# Altium schematic symbol library HW_ADHERENT_SYSCTRL_R1_L2.SCHLIB: 1987 symbols (part 21 of 38)
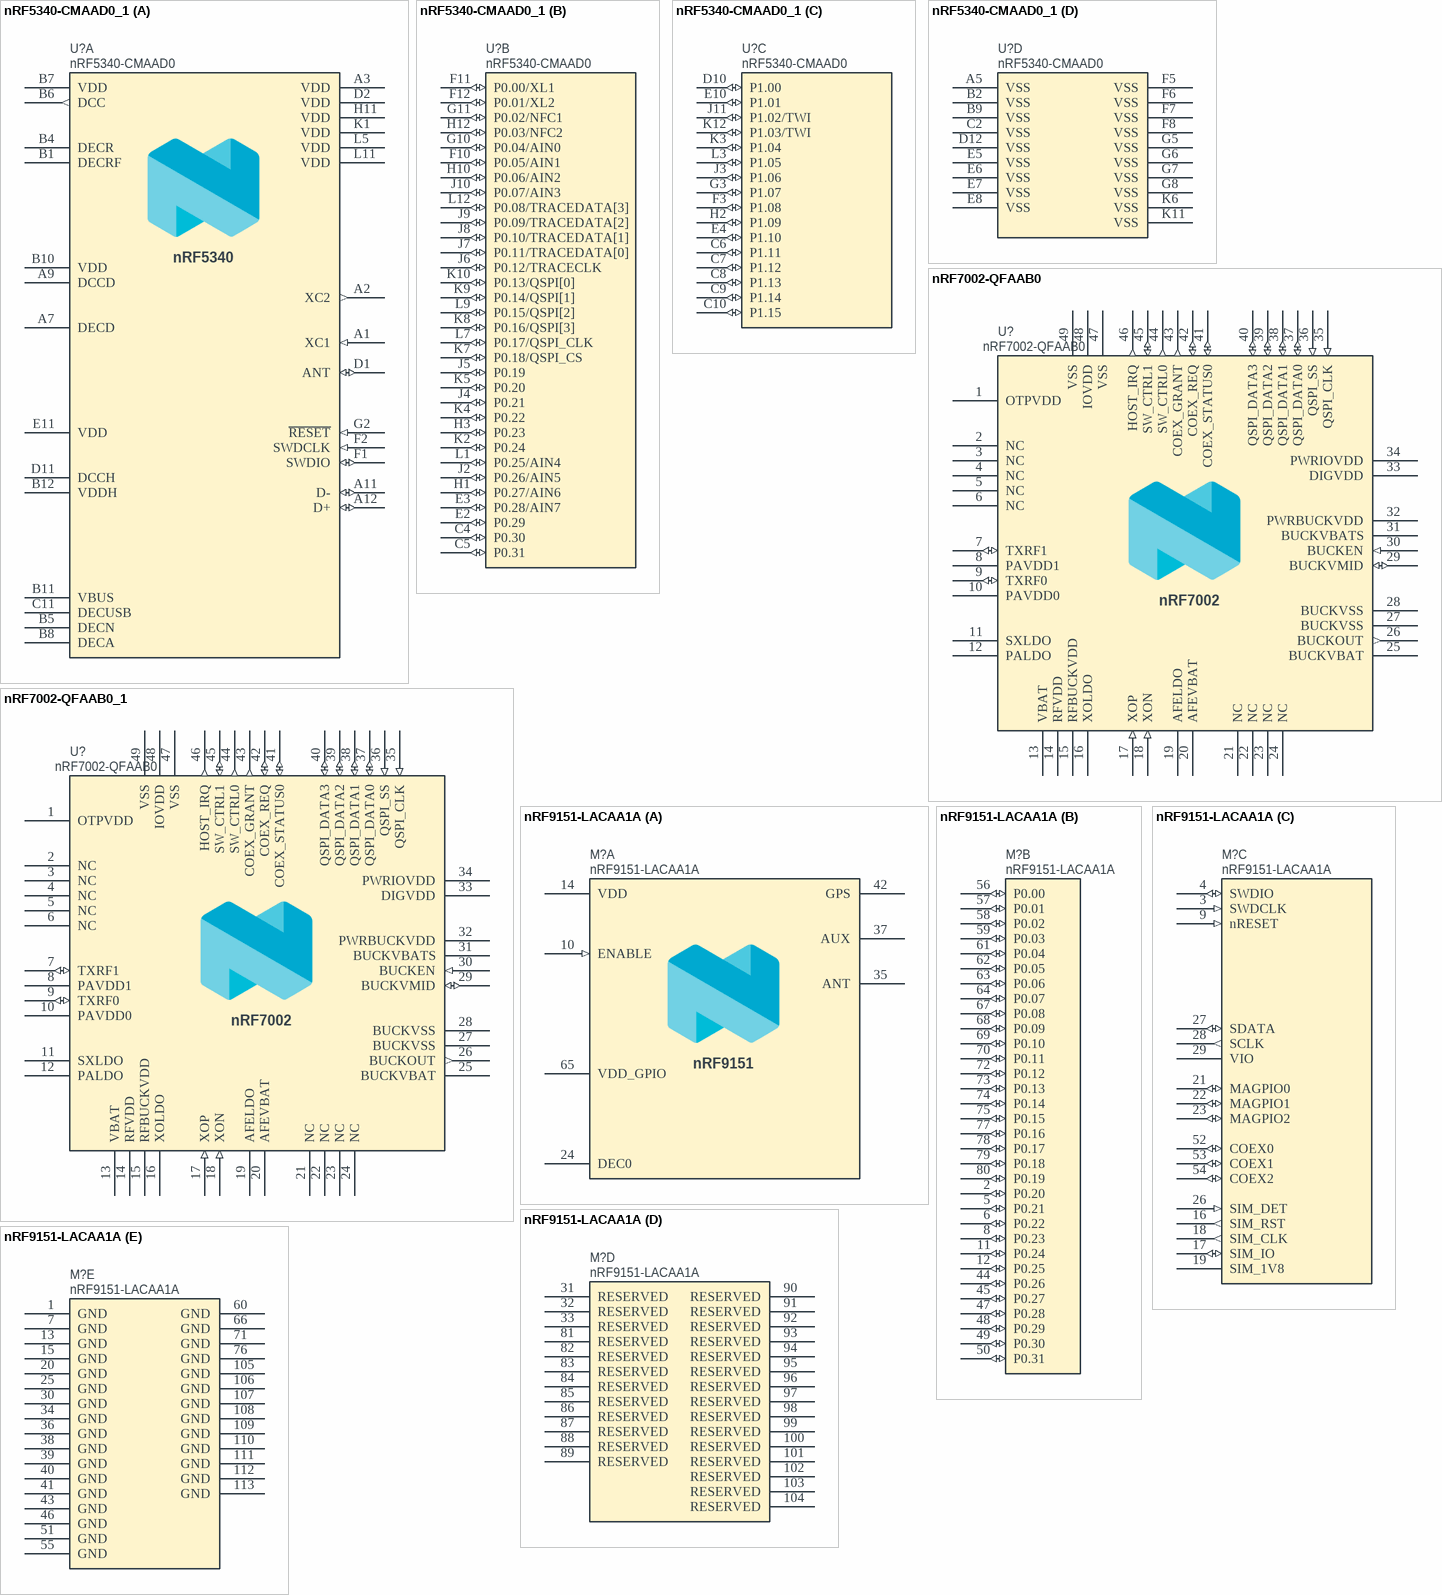
[diagram p82: symbols nRF5340-CMAAD0_1 to nRF9151-LACAA1A]

## nRF7002-QFAAB0
designator U?
Wi-fi Dual Band Companion chip; Manufacturer: Nordic Semiconductor; Part number NEMS: 102000276; Pad Count: 49; Note: N.A.; Component Status: Active; Part Number: nRF7002-QFAAB0; Component Class: Nordic_Devices; Author: hany; Manufacturer Part Number: nRF7002-QFAAB0; ComponentLink1URL: N.A.; ComponentLink1Description: Datasheet; ComponentLink2URL: N.A.; ComponentLink2Description: Supplier link; HelpURL: N.A.; Footprint Doc: QFN-48; LatestRevisionDate: 2023-01-11; Published: 2023-01-11; Value: nRF7002-QFAA; Supplier 1: Nordic Semiconductor; Supplier Part Number 1: nRF7002-QFAAB0; Supplier 2: N.A.; Supplier Part Number 2: N.A.; Artikkelnr Noca: N.A.; Part number IPS: N.A.; Part number Norautron: N.A.; PartId: 102000276
footprint QFN40P600X600X60-48N
pins: 1 OTPVDD (power) "OTP write mode supply,  (2.25-2.75V)", 2 NC, 3 NC, 4 NC, 5 NC, 6 NC, 7 TXRF1 (io) "RF INOUT ,", 8 PAVDD1 (power) "Supply ,  (3.3V)", 9 TXRF0 (io) "RF INOUT ,", 10 PAVDD0 (power) "Supply ,  (3.3V)", 11 SXLDO (power) "Supply ,  (1.2V)", 12 PALDO (power) "Supply ,  (3.3V)", 13 VBAT (power) "Supply ,  (2.5-4.5V)", 14 RFVDD (power) "Supply ,  (1.8V)", 15 RFBUCKVDD (power) "Supply ,  (1.5V)", 16 XOLDO (power) "Supply ,  (1.2V)", 17 XOP (in) "40MHz crystal ,", 18 XON (in) "40MHz crystal ,", 19 AFELDO (power) "Supply ,  (1.8V)", 20 AFEVBAT (power) "Supply ,  (2.5-4.5V)", 21 NC, 22 NC, 23 NC, 24 NC, 25 BUCKVBAT (power) "Supply ,  (2.5-4.5V)", 26 BUCKOUT (out) "DCDC output", 27 BUCKVSS (power) "DCDC GND", 28 BUCKVSS (power) "DCDC GND", 29 BUCKVMID (io) "Voltage reference decoupling pin ,", 30 BUCKEN (in) "PWR IP enable pin ,", 31 BUCKVBATS (power) "Supply ,  (2.5-4.5V)", 32 PWRBUCKVDD (power) "Supply ,  (1.5V)", 33 DIGVDD (power) "Supply ,  (1.1V)", 34 PWRIOVDD (power) "internal IO supply, may be used for OTP read,  (1.8-3.3 V)", 35 QSPI_CLK (in) "QSPI Clock", 36 QSPI_SS (in) "QSPI  Slave select", 37 QSPI_DATA0 (io) "QSPI data 0/MOSI", 38 QSPI_DATA1 (io) "QSPI data 1/MISO", 39 QSPI_DATA2 (io) "QSPI data 2/NC", 40 QSPI_DATA3 (io) "QSPI data 3/NC", 41 COEX_STATUS0 (io) "Coex interface, DIGMON1 (O) / GPIO1 (O)", 42 COEX_REQ (io) "Coex interface, DIGMON0 (O) / GPIO0 (O)", 43 COEX_GRANT (out) "Coex interface, GPIO2 (O)", 44 SW_CTRL0 (out) "external switch control , GPIO3 (O)", 45 SW_CTRL1 (io) "external switch control , GPIO4 (O) / BT_COEX_STATUS1 (I)", 46 HOST_IRQ (out) "Host processor interrupt request , GPIO5 (O)", 47 VSS "Connect to GND", 48 IOVDD (power) "IO supply ,  (1.8-3.3 V)", 49 VSS (power) "Center Pad"
text: nRF7002

## nRF7002-QFAAB0_1
designator U?, comment nRF7002-QFAAB0
Wi-fi Dual Band Companion chip; Manufacturer: Nordic Semiconductor; Part number NEMS: 102000276; Pad Count: 49; Note: N.A.; Component Status: Active; Part Number: nRF7002-QFAAB0; Component Class: Nordic_Devices; Author: hany; Manufacturer Part Number: nRF7002-QFAAB0; ComponentLink1URL: N.A.; ComponentLink1Description: Datasheet; ComponentLink2URL: N.A.; ComponentLink2Description: Supplier link; HelpURL: N.A.; Footprint Doc: QFN-48; LatestRevisionDate: 2023-01-11; Published: 2023-01-11; Value: nRF7002-QFAA; Supplier 1: Nordic Semiconductor; Supplier Part Number 1: nRF7002-QFAAB0; Supplier 2: N.A.; Supplier Part Number 2: N.A.; Artikkelnr Noca: N.A.; Part number IPS: N.A.; Part number Norautron: N.A.; PartId: 102000276
footprint QFN40P600X600X60-48N
pins: 1 OTPVDD (power) "OTP write mode supply,  (2.25-2.75V)", 2 NC, 3 NC, 4 NC, 5 NC, 6 NC, 7 TXRF1 (io) "RF INOUT ,", 8 PAVDD1 (power) "Supply ,  (3.3V)", 9 TXRF0 (io) "RF INOUT ,", 10 PAVDD0 (power) "Supply ,  (3.3V)", 11 SXLDO (power) "Supply ,  (1.2V)", 12 PALDO (power) "Supply ,  (3.3V)", 13 VBAT (power) "Supply ,  (2.5-4.5V)", 14 RFVDD (power) "Supply ,  (1.8V)", 15 RFBUCKVDD (power) "Supply ,  (1.5V)", 16 XOLDO (power) "Supply ,  (1.2V)", 17 XOP (in) "40MHz crystal ,", 18 XON (in) "40MHz crystal ,", 19 AFELDO (power) "Supply ,  (1.8V)", 20 AFEVBAT (power) "Supply ,  (2.5-4.5V)", 21 NC, 22 NC, 23 NC, 24 NC, 25 BUCKVBAT (power) "Supply ,  (2.5-4.5V)", 26 BUCKOUT (out) "DCDC output", 27 BUCKVSS (power) "DCDC GND", 28 BUCKVSS (power) "DCDC GND", 29 BUCKVMID (io) "Voltage reference decoupling pin ,", 30 BUCKEN (in) "PWR IP enable pin ,", 31 BUCKVBATS (power) "Supply ,  (2.5-4.5V)", 32 PWRBUCKVDD (power) "Supply ,  (1.5V)", 33 DIGVDD (power) "Supply ,  (1.1V)", 34 PWRIOVDD (power) "internal IO supply, may be used for OTP read,  (1.8-3.3 V)", 35 QSPI_CLK (in) "QSPI Clock", 36 QSPI_SS (in) "QSPI  Slave select", 37 QSPI_DATA0 (io) "QSPI data 0/MOSI", 38 QSPI_DATA1 (io) "QSPI data 1/MISO", 39 QSPI_DATA2 (io) "QSPI data 2/NC", 40 QSPI_DATA3 (io) "QSPI data 3/NC", 41 COEX_STATUS0 (io) "Coex interface, DIGMON1 (O) / GPIO1 (O)", 42 COEX_REQ (io) "Coex interface, DIGMON0 (O) / GPIO0 (O)", 43 COEX_GRANT (out) "Coex interface, GPIO2 (O)", 44 SW_CTRL0 (out) "external switch control , GPIO3 (O)", 45 SW_CTRL1 (io) "external switch control , GPIO4 (O) / BT_COEX_STATUS1 (I)", 46 HOST_IRQ (out) "Host processor interrupt request , GPIO5 (O)", 47 VSS "Connect to GND", 48 IOVDD (power) "IO supply ,  (1.8-3.3 V)", 49 VSS (power) "Center Pad"
text: nRF7002

## nRF9151-LACAA1A
designator M?
Low power System-in-Package with integrated LTE-M/NB-IoT modem and GPS; Manufacturer: Nordic Semiconductor; Part number NEMS: 102000407; Component Status: Active; Pad Count: 113; Note: N.A.; Part Number: nRF9151-LACAA1A; PartId: 102000407; Component Class: Nordic_Devices; Author: getr; Manufacturer Part Number: nRF9151-LACAA1A; ComponentLink1URL: N.A.; ComponentLink1Description: Datasheet; ComponentLink2URL: N.A.; ComponentLink2Description: Supplier link; HelpURL: N.A.; LatestRevisionDate: 2025-04-09; Published: 2025-04-09; Footprint Doc: LGA-113; Value: nRF9151-LACAA1A; Supplier 1: Nordic Semiconductor; Supplier Part Number 1: nRF9151-LACAA1A; Supplier 2: N.A.; Supplier Part Number 2: N.A.; Artikkelnr Noca: N.A.; Part number IPS: N.A.; Part number Norautron: N.A.
footprint LGA50P1210X1110X130-113N
part A pins: 10 ENABLE (in), 14 VDD (power), 24 DEC0, 35 ANT, 37 AUX, 42 GPS, 65 VDD_GPIO (power)
part B pins: 2 P0.20 (io), 5 P0.21 (io), 6 P0.22 (io), 8 P0.23 (io), 11 P0.24 (io), 12 P0.25 (io), 44 P0.26 (io), 45 P0.27 (io), 47 P0.28 (io), 48 P0.29 (io), 49 P0.30 (io), 50 P0.31 (io), 56 P0.00 (io), 57 P0.01 (io), 58 P0.02 (io), 59 P0.03 (io), 61 P0.04 (io), 62 P0.05 (io), 63 P0.06 (io), 64 P0.07 (io), 67 P0.08 (io), 68 P0.09 (io), 69 P0.10 (io), 70 P0.11 (io), 72 P0.12 (io), 73 P0.13 (io), 74 P0.14 (io), 75 P0.15 (io), 77 P0.16 (io), 78 P0.17 (io), 79 P0.18 (io), 80 P0.19 (io)
part C pins: 3 SWDCLK (in), 4 SWDIO (io), 9 nRESET (in), 16 SIM_RST (out), 17 SIM_IO (io), 18 SIM_CLK (out), 19 SIM_1V8 (power), 21 MAGPIO0 (io), 22 MAGPIO1 (io), 23 MAGPIO2 (io), 26 SIM_DET (in), 27 SDATA (io), 28 SCLK (out), 29 VIO, 52 COEX0 (io), 53 COEX1 (io), 54 COEX2 (io)
part D pins: 31 RESERVED, 32 RESERVED, 33 RESERVED, 81 RESERVED, 82 RESERVED, 83 RESERVED, 84 RESERVED, 85 RESERVED, 86 RESERVED, 87 RESERVED, 88 RESERVED, 89 RESERVED, 90 RESERVED, 91 RESERVED, 92 RESERVED, 93 RESERVED, 94 RESERVED, 95 RESERVED, 96 RESERVED, 97 RESERVED, 98 RESERVED, 99 RESERVED, 100 RESERVED, 101 RESERVED, 102 RESERVED, 103 RESERVED, 104 RESERVED
part E pins: 1 GND, 7 GND, 13 GND, 15 GND, 20 GND, 25 GND, 30 GND, 34 GND, 36 GND, 38 GND, 39 GND, 40 GND, 41 GND, 43 GND, 46 GND, 51 GND, 55 GND, 60 GND, 66 GND, 71 GND, 76 GND, 105 GND, 106 GND, 107 GND, 108 GND, 109 GND, 110 GND, 111 GND, 112 GND, 113 GND
part A text: nRF9151

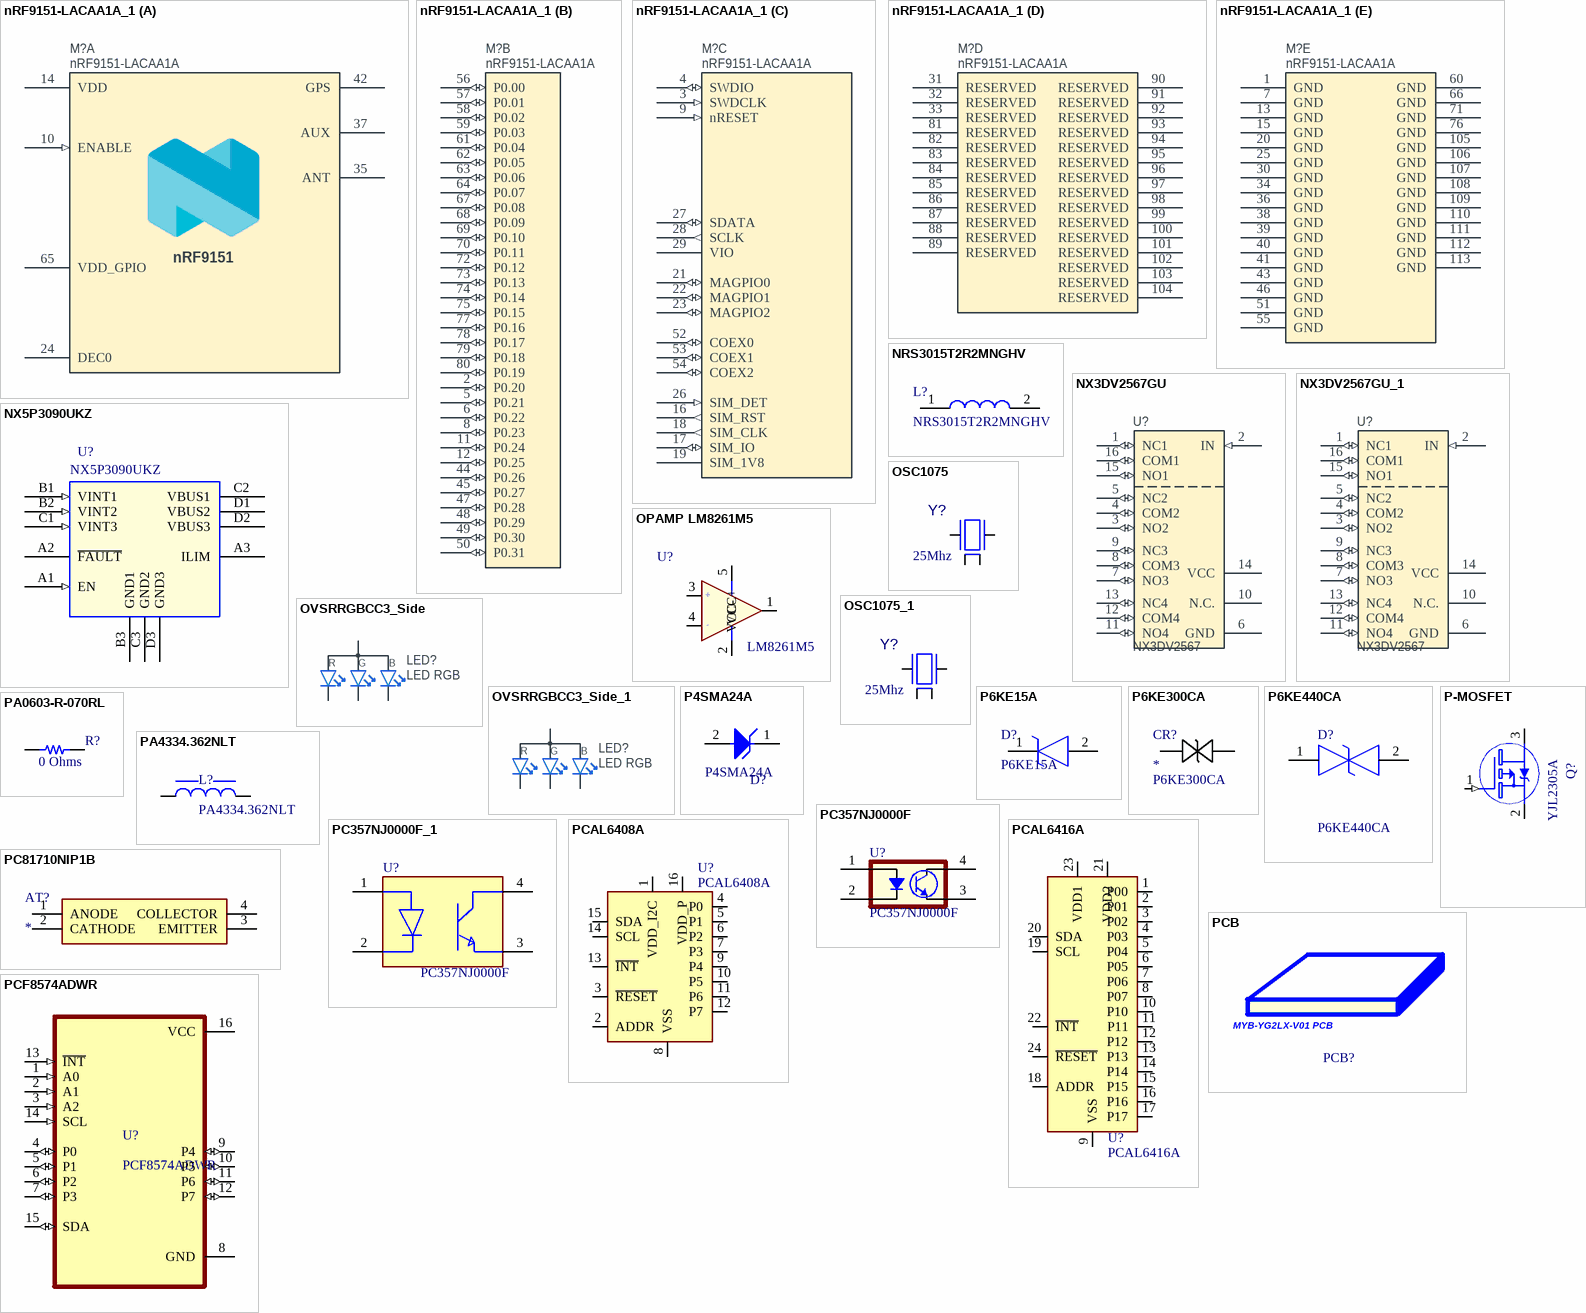
[diagram p39: symbols nRF9151-LACAA1A_1 to PCF8574ADWR]

## nRF9151-LACAA1A_1
designator M?, comment nRF9151-LACAA1A
Low power System-in-Package with integrated LTE-M/NB-IoT modem and GPS; Manufacturer: Nordic Semiconductor; Part number NEMS: 102000407; Component Status: Active; Pad Count: 113; Note: N.A.; Part Number: nRF9151-LACAA1A; PartId: 102000407; Component Class: Nordic_Devices; Author: getr; Manufacturer Part Number: nRF9151-LACAA1A; ComponentLink1URL: N.A.; ComponentLink1Description: Datasheet; ComponentLink2URL: N.A.; ComponentLink2Description: Supplier link; HelpURL: N.A.; LatestRevisionDate: 2025-04-09; Published: 2025-04-09; Footprint Doc: LGA-113; Value: nRF9151-LACAA1A; Supplier 1: Nordic Semiconductor; Supplier Part Number 1: nRF9151-LACAA1A; Supplier 2: N.A.; Supplier Part Number 2: N.A.; Artikkelnr Noca: N.A.; Part number IPS: N.A.; Part number Norautron: N.A.
footprint LGA50P1210X1110X130-113N
part A pins: 10 ENABLE (in), 14 VDD (power), 24 DEC0, 35 ANT, 37 AUX, 42 GPS, 65 VDD_GPIO (power)
part B pins: 2 P0.20 (io), 5 P0.21 (io), 6 P0.22 (io), 8 P0.23 (io), 11 P0.24 (io), 12 P0.25 (io), 44 P0.26 (io), 45 P0.27 (io), 47 P0.28 (io), 48 P0.29 (io), 49 P0.30 (io), 50 P0.31 (io), 56 P0.00 (io), 57 P0.01 (io), 58 P0.02 (io), 59 P0.03 (io), 61 P0.04 (io), 62 P0.05 (io), 63 P0.06 (io), 64 P0.07 (io), 67 P0.08 (io), 68 P0.09 (io), 69 P0.10 (io), 70 P0.11 (io), 72 P0.12 (io), 73 P0.13 (io), 74 P0.14 (io), 75 P0.15 (io), 77 P0.16 (io), 78 P0.17 (io), 79 P0.18 (io), 80 P0.19 (io)
part C pins: 3 SWDCLK (in), 4 SWDIO (io), 9 nRESET (in), 16 SIM_RST (out), 17 SIM_IO (io), 18 SIM_CLK (out), 19 SIM_1V8 (power), 21 MAGPIO0 (io), 22 MAGPIO1 (io), 23 MAGPIO2 (io), 26 SIM_DET (in), 27 SDATA (io), 28 SCLK (out), 29 VIO, 52 COEX0 (io), 53 COEX1 (io), 54 COEX2 (io)
part D pins: 31 RESERVED, 32 RESERVED, 33 RESERVED, 81 RESERVED, 82 RESERVED, 83 RESERVED, 84 RESERVED, 85 RESERVED, 86 RESERVED, 87 RESERVED, 88 RESERVED, 89 RESERVED, 90 RESERVED, 91 RESERVED, 92 RESERVED, 93 RESERVED, 94 RESERVED, 95 RESERVED, 96 RESERVED, 97 RESERVED, 98 RESERVED, 99 RESERVED, 100 RESERVED, 101 RESERVED, 102 RESERVED, 103 RESERVED, 104 RESERVED
part E pins: 1 GND, 7 GND, 13 GND, 15 GND, 20 GND, 25 GND, 30 GND, 34 GND, 36 GND, 38 GND, 39 GND, 40 GND, 41 GND, 43 GND, 46 GND, 51 GND, 55 GND, 60 GND, 66 GND, 71 GND, 76 GND, 105 GND, 106 GND, 107 GND, 108 GND, 109 GND, 110 GND, 111 GND, 112 GND, 113 GND
part A text: nRF9151

## NRS3015T2R2MNGHV
designator L?
2.2 µH Shielded Drum Core, Wirewound Inductor 1.5 A 58mOhm Max Nonstandard; Manufacturer_Name: TAIYO YUDEN; Datasheet Link: https://componentsearchengine.com/Datasheets/1/NRS3015T2R2MNGHV.pdf; Height: 1.5mm; Manufacturer_Part_Number: NRS3015T2R2MNGHV; Mouser Part Number: 963-NRS3015T2R2MNGHV; Mouser Price/Stock: https://www.mouser.co.uk/ProductDetail/TAIYO-YUDEN/NRS3015T2R2MNGHV?qs=DpxmIIQLg%252BP8UFyXVw61Xw%3D%3D; Arrow Part Number: NRS3015T2R2MNGHV; Arrow Price/Stock: https://www.arrow.com/en/products/nrs3015t2r2mnghv/taiyo-yuden?region=nac
footprint NRS3015T2R2MNGHV
pins: 1, 2

## NX3DV2567GU
designator U?, comment NX3DV2567
Low-ohmic four-pole double-throw analog switch; Part Number: NX3DV2567GU; Manufacturer: NXP Semiconductors; Part number IPS: 00000007816; Part number NEMS: 101900290; Note: N.A.; Artikkelnr Noca: 15079317; Pad Count: 16; Component Status: Active; Manufacturer Part Number: NX3DV2567GU; Footprint Doc: XQFN-16; LatestRevisionDate: 2015-02-17; Published: 2015-02-17; Value: NX3DV2567; ComponentLink1URL: N.A.; ComponentLink1Description: Datasheet; ComponentLink2URL: N.A.; ComponentLink2Description: Supplier link; HelpURL: http://www.nxp.com/documents/data_sheet/NX3DV2567.pdf; Supplier 1: Digi-Key; Supplier Part Number 1: 568-5206-1-ND; Supplier 2: Mouser; Supplier Part Number 2: 771-NX3DV2567GU115; PartId: 101900290; Component Class: Misc_ICs; Author: rsk; Part number Norautron: N.A.
footprint XQFN40P180X260X50-16N
pins: 1 NC1 (io), 2 IN (in), 3 NO2 (io), 4 COM2 (io), 5 NC2 (io), 6 GND (power), 7 NO3 (io), 8 COM3 (io), 9 NC3 (io), 10 N.C., 11 NO4 (io), 12 COM4 (io), 13 NC4 (io), 14 VCC (power), 15 NO1 (io), 16 COM1 (io)
3 alternate drawings of the same symbol

## NX3DV2567GU_1
designator U?, comment NX3DV2567
Low-ohmic four-pole double-throw analog switch; Part Number: NX3DV2567GU; Manufacturer: NXP Semiconductors; Part number IPS: 00000007816; Part number NEMS: 101900290; Note: N.A.; Artikkelnr Noca: 15079317; Pad Count: 16; Component Status: Active; Manufacturer Part Number: NX3DV2567GU; Footprint Doc: XQFN-16; LatestRevisionDate: 2015-02-17; Published: 2015-02-17; Value: NX3DV2567; ComponentLink1URL: N.A.; ComponentLink1Description: Datasheet; ComponentLink2URL: N.A.; ComponentLink2Description: Supplier link; HelpURL: http://www.nxp.com/documents/data_sheet/NX3DV2567.pdf; Supplier 1: Digi-Key; Supplier Part Number 1: 568-5206-1-ND; Supplier 2: Mouser; Supplier Part Number 2: 771-NX3DV2567GU115; PartId: 101900290; Component Class: Misc_ICs; Author: rsk; Part number Norautron: N.A.
footprint XQFN40P180X260X50-16N
pins: 1 NC1 (io), 2 IN (in), 3 NO2 (io), 4 COM2 (io), 5 NC2 (io), 6 GND (power), 7 NO3 (io), 8 COM3 (io), 9 NC3 (io), 10 N.C., 11 NO4 (io), 12 COM4 (io), 13 NC4 (io), 14 VCC (power), 15 NO1 (io), 16 COM1 (io)
3 alternate drawings of the same symbol

## NX5P3090UKZ
designator U?
IC,USB PD and type C current-limited power switch,SMD,WLCSP12,X5PT2,NXP; Myir P/N: 20105.00023; CLASS: IC; Part Type: Logic; Manufacturer: NXP; Manufacturer P/N: NX5P3090UKZ; Reserve Value: NX5P3090UKZ; Datasheet: NX5P3090.pdf; PCB Footprint: WLCSP12
footprint WLCSP12
pins: A1 EN (in), A2 ~{FAULT} (oc), A3 ILIM, B1 VINT1 (in), B2 VINT2 (in), B3 GND1 (power), C1 VINT3 (in), C2 VBUS1, C3 GND2 (power), D1 VBUS2, D2 VBUS3, D3 GND3 (power)

## OPAMP LM8261M5
designator U?, comment LM8261M5
Op-amp RR IO; Manufacturer: TI; Position: U?; Value: LM8261M5; Manufacturer Part Number: LM8261M5; Supplier Part Number: LM8261M5CT-ND
footprint SOT23-5
pins: 1 VOUT, 2 VCC-, 3 VIN+, 4 VIN-, 5 VCC+
text: +; -

## OSC1075
designator Y?, comment 25Mhz
CRYSTAL 25.0000MHZ 10PF SMD; Manufacturer: Abracon LLC; Manufacturer Part Number: ABM8G-25.000MHZ-4Y-T3; Value: 25Mhz; Revision: 1; Supplier Part Number: 535-10915-1-ND
footprint SMD 3.2x2.5x1mm (ABM8G-25.000MHZ-4Y-T3)
pins: 1 Osc1, 2 GND (power), 3 Osc2, 4 GND (power)
1 alternate drawing of the same symbol

## OSC1075_1
designator Y?, comment 25Mhz
CRYSTAL 25.0000MHZ 10PF SMD; Manufacturer: Abracon LLC; Manufacturer Part Number: ABM8G-25.000MHZ-4Y-T3; Value: 25Mhz; Revision: 1; Supplier Part Number: 535-10915-1-ND
footprint SMD 3.2x2.5x1mm (ABM8G-25.000MHZ-4Y-T3)
pins: 1 Osc1, 2 GND (power), 3 Osc2, 4 GND (power)
1 alternate drawing of the same symbol

## OVSRRGBCC3_Side
designator LED?, comment LED RGB
Optek, Side mounted RGB 1204 SMD LED; Part Number: OVSRRGBCC3_Side; Manufacturer Part Number: OVSRRGBCC3; Part number NEMS: 101400026; Pad Count: 4; Artikkelnr Noca: N.A.; Component Status: Active; PartId: 101400026; Component Class: Optoelectronics; Author: rsk; Manufacturer: Optek; ComponentLink1URL: http://www.ttelectronics.com/sites/default/files/download-files/Datasheet_OVSRRGBCC3%20Issue%20G.pdf; ComponentLink1Description: Datasheet; ComponentLink2URL: https://www.digikey.no/product-detail/en/tt-electronics-optek-technology/OVSRRGBCC3TM/365-1981-1-ND/5147364; ComponentLink2Description: Supplier link; HelpURL: http://no.farnell.com/optek-technology/ovsrrgbcc3tm/led-dome-rgb-smd/dp/2428398?CMP=GRHB-OCTOPART; Footprint Doc: 1204; LatestRevisionDate: 2018-07-23; Published: 2009-09-11; Value: LED RGB; Note: Side mounted; Supplier 1: Digi-Key; Supplier Part Number 1: 365-1410-1-ND; Supplier 2: Farnell; Supplier Part Number 2: 167-8707; Part number IPS: N.A.; Part number Norautron: N.A.
footprint OVSRRGBCC3_Side
pins: 1 C_RED, 2 C_GREEN, 3 C_BLUE, 4 A
text: R; G; B

## OVSRRGBCC3_Side_1
designator LED?, comment LED RGB
Optek, Side mounted RGB 1204 SMD LED; Part Number: OVSRRGBCC3_Side; Manufacturer Part Number: OVSRRGBCC3; Part number NEMS: 101400026; Pad Count: 4; Artikkelnr Noca: N.A.; Component Status: Active; PartId: 101400026; Component Class: Optoelectronics; Author: rsk; Manufacturer: Optek; ComponentLink1URL: http://www.ttelectronics.com/sites/default/files/download-files/Datasheet_OVSRRGBCC3%20Issue%20G.pdf; ComponentLink1Description: Datasheet; ComponentLink2URL: https://www.digikey.no/product-detail/en/tt-electronics-optek-technology/OVSRRGBCC3TM/365-1981-1-ND/5147364; ComponentLink2Description: Supplier link; HelpURL: http://no.farnell.com/optek-technology/ovsrrgbcc3tm/led-dome-rgb-smd/dp/2428398?CMP=GRHB-OCTOPART; Footprint Doc: 1204; LatestRevisionDate: 2018-07-23; Published: 2009-09-11; Value: LED RGB; Note: Side mounted; Supplier 1: Digi-Key; Supplier Part Number 1: 365-1410-1-ND; Supplier 2: Farnell; Supplier Part Number 2: 167-8707; Part number IPS: N.A.; Part number Norautron: N.A.
footprint OVSRRGBCC3_Side
pins: 1 C_RED, 2 C_GREEN, 3 C_BLUE, 4 A
text: R; G; B

## P4SMA24A
designator D?, comment Manufacturer Part Number: P4SMA24A  (hidden comment: TVS DIODE 20.5VWM 33.2VC DO214AC)
33.2V Clamp 12.3A Ipp Tvs Diode Surface Mount DO-214AC (SMA); Order Code: DIGI: 18-P4SMA24ATR-ND
footprint Diodes_SMA_0
pins: 1 C, 2 A

## P6KE15A
designator D?
21.2V Clamp 28A Ipp Tvs Diode Through Hole DO-204AC (DO-15); Manufacturer_Name: STMicroelectronics; Datasheet Link: http://www.st.com/web/en/resource/technical/document/datasheet/CD00000720.pdf; Manufacturer_Part_Number: P6KE15A; Mouser Part Number: 511-P6KE15A; Mouser Price/Stock: https://www.mouser.co.uk/ProductDetail/STMicroelectronics/P6KE15A?qs=TGPpmpbSrT5hhHGF%252BJ4hqw%3D%3D; Arrow Part Number: P6KE15A; Arrow Price/Stock: https://www.arrow.com/en/products/p6ke15a/stmicroelectronics?region=nac
footprint DIOAD1936W88L640D324
pins: 1 K, 2 A

## P6KE300CA
designator CR?  MPN: P6KE300CA
No Description Available; Mfr_Name: STMicroelectronics
footprint DO-15B_STM
pins: 1, 2

## P6KE440CA
designator D?
ESD Suppressors / TVS Diodes 376Vr 600W 1A 5% Bi-Directional; Manufacturer_Name: LITTELFUSE; Geometry.Height: 3.6mm; Manufacturer_Part_Number: P6KE440CA; Mouser Part Number: 576-P6KE440CA; Mouser Price/Stock: https://www.mouser.co.uk/ProductDetail/Littelfuse/P6KE440CA?qs=zHiv0nsVGmr0h28xTXyx4A%3D%3D; Arrow Part Number: P6KE440CA; Arrow Price/Stock: https://www.arrow.com/en/products/p6ke440ca/littelfuse; Datasheet Link: https://www.littelfuse.com/~/media/electronics/datasheets/tvs_diodes/littelfuse_tvs_diode_p6ke_datasheet.pdf.pdf
footprint P6KE440CA
pins: 1, 2

## P-MOSFET
designator Q?, comment YJL2305A
Mosfet,P-Channel,15V,70OHM,5.6A,SOT23,SMD,YangJie; RP2 Manufacturer P/N: PMV48XPA; RP1 Manufacturer P/N: IRLML6401TRPBF; RP2 Myir P/N: 20703.00014; RP1 Myir P/N: 20703.00005; Myir P/N: 20703.80039; PCB Footprint: SOT-23; Part Type: Mosfet; Manufacturer: YangJie; Manufacturer P/N: YJL2305A; Reserve Value: YJL2305A; Datasheet: YJL2305A.pdf
footprint SOT23T02
footprint SOT-23
pins: 1 G (in), 2 S, 3 D

## PA0603-R-070RL
designator R?, comment 0 Ohms
RES 0 OHM JUMPER 1/2W 0603; Part Number: PA0603-R-070RL; Manufacturer: Yageo; Power (Watts): 0.1W, 1/10W; Temperature Coefficient: ±150ppm/°C; Value: 0 Ohms; ComponentLink1Description: Datasheet; ComponentLink1URL: http://www.yageo.com/NewPortal/_en/search/productDocs.jsp?YageoPartNumber=PA0603-R-070RL; ComponentLink2Description: DigiKey Link; ComponentLink2URL: https://www.digikey.com/en/products/detail/yageo/PA0603-R-070RL/8255972; Composition: Metal Element; Device Package: 0603 (1608 Metric); Features: Automotive AEC-Q200, Current Sense; Height - Seated (Max): 0.024" (0.60mm); LastUpdated: 25.07.2024 09:19:32; Lifecycle Status: Active; Minimum Order: 1; Number of Terminations: 2; Operating Temperature: -55°C ~ 155°C; Package / Case: 0603 (1608 Metric); Packaging: TapeAndReel; PartId: 4862; Part Status: Active; Price: 0.08; Resistance: 0 Ohms; Series: PA; Size / Dimension: 0.063" L x 0.031" W (1.60mm x 0.80mm); Supplier 1: DigiKey; Supplier Part Number 1: YAG5757CT-ND; Supplier Device Package: 0603; Tolerance: Jumper
footprint YAGEO RES 0603_1608
pins: 1, 2

## PA4334.362NLT
designator L?
3.6 µH Shielded Drum Core, Wirewound Inductor 1.36 A 130mOhm Max Nonstandard; MP: PA4334.362NLT
footprint WE-LQS_3015
pins: 1, 2

## PC357NJ0000F
designator U?
Manufacturer: Socle Technology; Supplier 1: Digi-Key; Manufacturer Part Number: PC357NJ0000F; RoHS: No; Stock 1: 22388; Pricing 1: 1=0,83000, 10=0,53800, 100=0,35270, 1000=0,27841 (USD); Supplier Part Number 1: 1855-1023-1-ND
footprint SOIC_1TJ00F_SHP
pins: 1, 2, 3, 4

## PC357NJ0000F_1
designator U?, comment Manufacturer Part Number: PC357NJ0000F  (hidden comment: OPTOISO 3.75KV TRANSISTOR 4BESOP)
Optoisolator Transistor Output 3750Vrms 1 Channel 4-SMD; Manufacturer: SHARP/Socle Technology
footprint Sharp_PC357NJ0000F_0
pins: 1 A, 2 C, 3 E, 4 C

## PC81710NIP1B
designator AT?
Attenuator or Isolator; Manufacturer_Name: Sharp Microelectronics; Manufacturer_Part_Number: PC81710NIP1B; Datasheet Link: https://global.sharp/products/device/lineup/data/pdf/datasheet/PC8171xNSZ1B_e.pdf; Height: 4.2mm; Mouser Part Number: 852-PC81710NIP1B; Mouser Price/Stock: https://www.mouser.co.uk/ProductDetail/Sharp-Microelectronics/PC81710NIP1B?qs=MLItCLRbWswN8lAuXmPENg%3D%3D
footprint SOP254P960X420-4N
pins: 1 ANODE, 2 CATHODE, 3 EMITTER, 4 COLLECTOR

## PCAL6408A
designator U?
GPIO expander 8 IO; Manufacturer: NXP USA Inc.; Manufacturer Part Number: PCAL6408APWJ; Value: PCAL6408A; Supplier Part Number: 568-9921-1-ND
footprint TSSOP-16 (CHECKED BY NAME- 24FEB2020, CREATED BY: JE 400 040A)
pins: 1 VDD_I2C (power), 2 ADDR, 3 ~{RESET}, 4 P0, 5 P1, 6 P2, 7 P3, 8 VSS (power), 9 P4, 10 P5, 11 P6, 12 P7, 13 ~{INT}, 14 SCL, 15 SDA, 16 VDD_P (power)

## PCAL6416A
designator U?
GPIO expander 16 IO; Manufacturer: NXP; Manufacturer Part Number: PCAL6416AHF; Position: U?; Value: PCAL6416A; Supplier Part Number: 568-9946-1-ND
footprint HWQFN-24
pins: 1 P00, 2 P01, 3 P02, 4 P03, 5 P04, 6 P05, 7 P06, 8 P07, 9 VSS (power), 10 P10, 11 P11, 12 P12, 13 P13, 14 P14, 15 P15, 16 P16, 17 P17, 18 ADDR, 19 SCL, 20 SDA, 21 VDD2 (power), 22 ~{INT}, 23 VDD1 (power), 24 ~{RESET}

## PCB
designator PCB?, comment MYB-YG2LX-V01 PCB
PCB Footprint: id-board; Page: 31
footprint id-board

## PCF8574ADWR
designator U?
8-bit 2.5- to 5.5-V I2C/SMBus I/O expander with interrupt; MF: Texas Instruments; SnapEDA_Link: https://www.snapeda.com/parts/PCF8574ADWR/Texas+Instruments/view-part/?ref=snap; Package: SOIC-16 Texas Instruments; Value: *; MP: PCF8574ADWR; Check_prices: https://www.snapeda.com/parts/PCF8574ADWR/Texas+Instruments/view-part/?ref=eda
footprint SOIC127P1030X265-16N
pins: 1 A0 (in), 2 A1 (in), 3 A2 (in), 4 P0 (io), 5 P1 (io), 6 P2 (io), 7 P3 (io), 8 GND (power), 9 P4 (io), 10 P5 (io), 11 P6 (io), 12 P7 (io), 13 ~{INT} (in), 14 SCL (in), 15 SDA (io), 16 VCC (power)

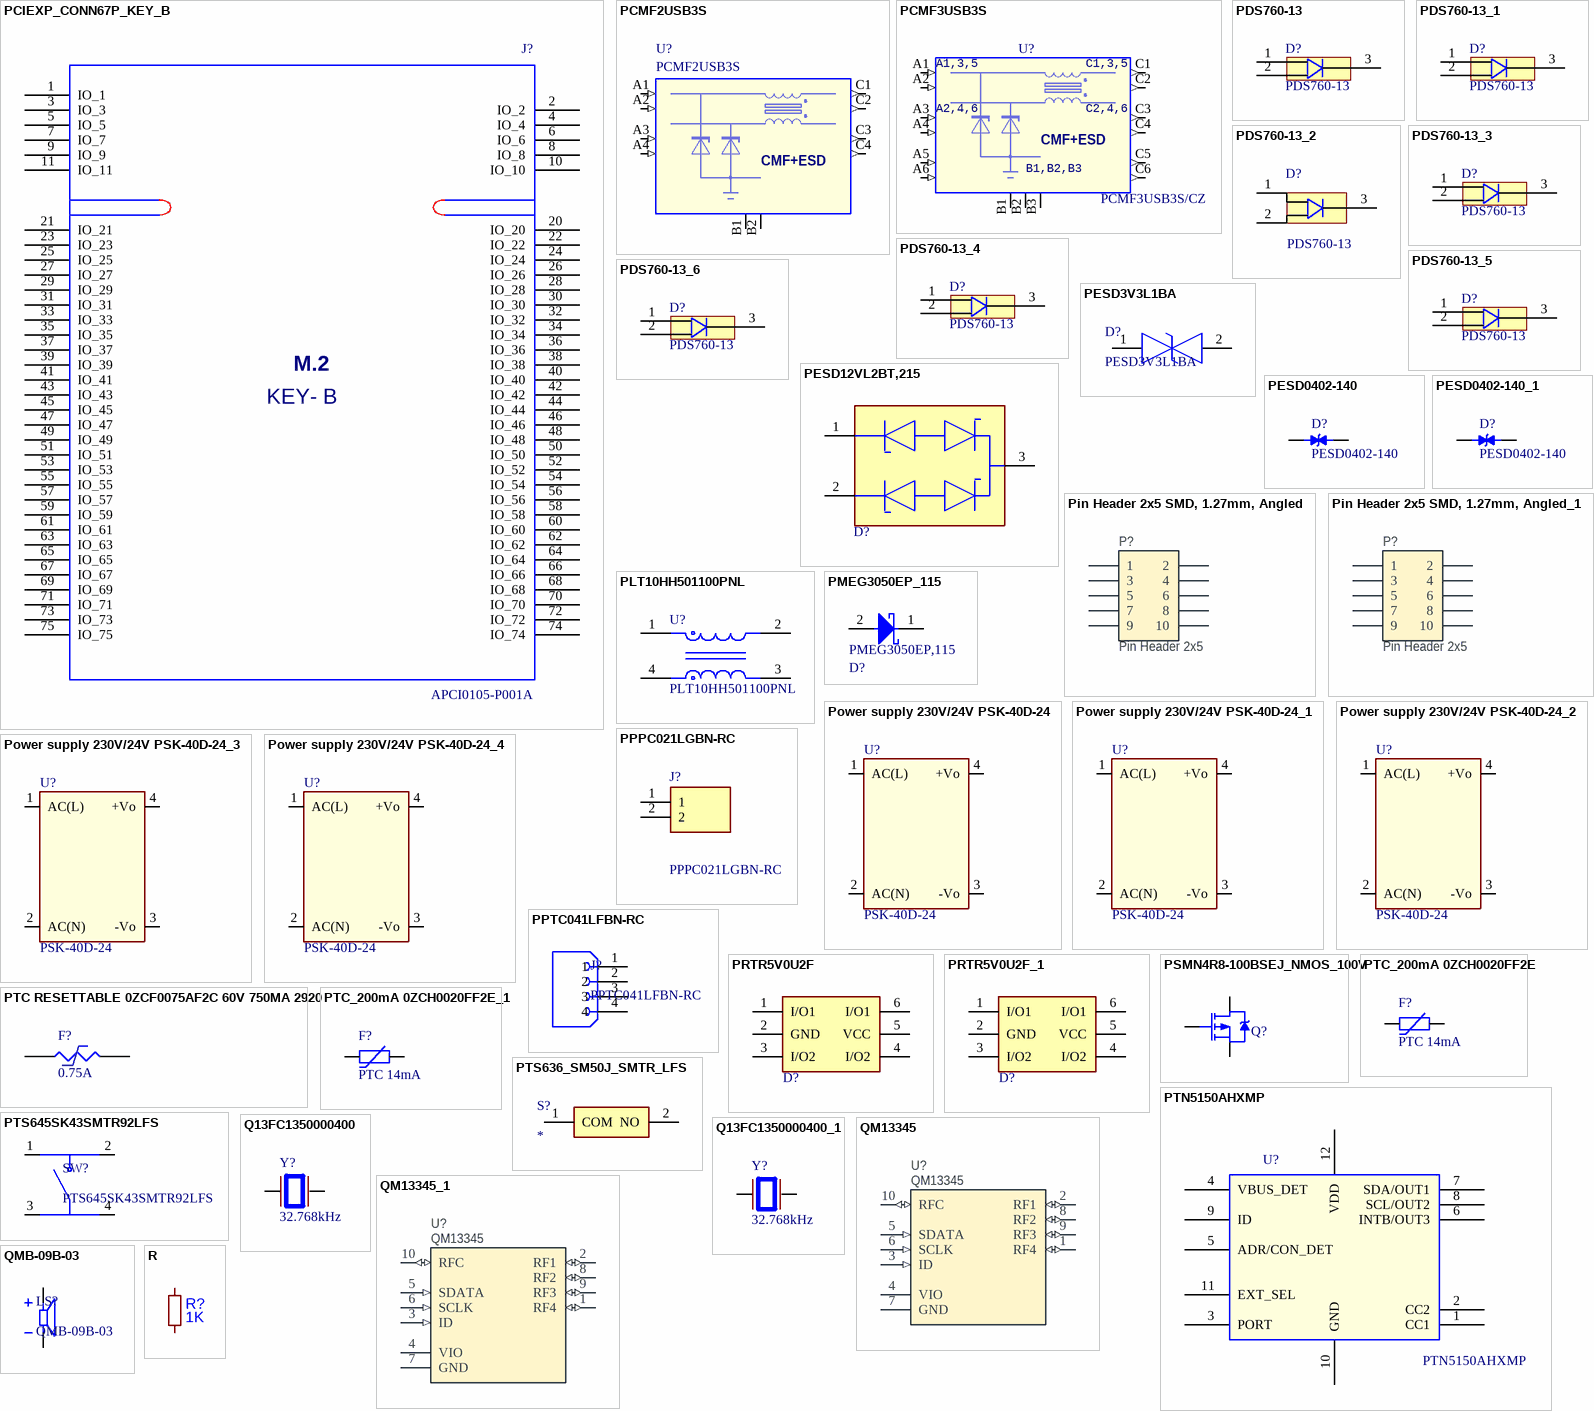
[diagram p40: symbols PCIEXP_CONN67P_KEY_B to R]

## PCIEXP_CONN67P_KEY_B
designator J?, comment APCI0105-P001A
Board Connector,M.2 B-KEY, M.2 Connectors, Connector Height 4.2 mm, Gold, Board-to-Board, 67 Position, 0.5mm,Lotes; CLASS: IO; Myir P/N: 21110.00027; PCB Footprint: CONN-2199230-3; Datasheet: APCI0105-H=4.2(B KEY) .pdf; Reserve Value: APCI0105-P001A; Manufacturer P/N: APCI0105-P001A; Manufacturer: Lotes; Part Type: Board Connector
footprint CONN-2199230-3
pins: 1 IO_1, 2 IO_2, 3 IO_3, 4 IO_4, 5 IO_5, 6 IO_6, 7 IO_7, 8 IO_8, 9 IO_9, 10 IO_10, 11 IO_11, 20 IO_20, 21 IO_21, 22 IO_22, 23 IO_23, 24 IO_24, 25 IO_25, 26 IO_26, 27 IO_27, 28 IO_28, 29 IO_29, 30 IO_30, 31 IO_31, 32 IO_32, 33 IO_33, 34 IO_34, 35 IO_35, 36 IO_36, 37 IO_37, 38 IO_38, 39 IO_39, 40 IO_40, 41 IO_41, 42 IO_42, 43 IO_43, 44 IO_44, 45 IO_45, 46 IO_46, 47 IO_47, 48 IO_48, 49 IO_49, 50 IO_50, 51 IO_51, 52 IO_52, 53 IO_53, 54 IO_54, 55 IO_55, 56 IO_56, 57 IO_57, 58 IO_58, 59 IO_59, 60 IO_60, 61 IO_61, 62 IO_62, 63 IO_63, 64 IO_64, 65 IO_65, 66 IO_66, 67 IO_67, 68 IO_68, 69 IO_69, 70 IO_70, 71 IO_71, 72 IO_72, 73 IO_73, 74 IO_74, 75 IO_75
text: M.2; KEY- B

## PCMF2USB3S
designator U?
IC,Common-mode EMI filter for 2 channels with integrated ESD protection,SMD,WLCSP10,PF2S,NXP; Myir P/N: 20114.00011; CLASS: IC; Datasheet: PCMFxUSB3S.pdf; Reserve Value: PCMF2USB3S; Manufacturer P/N: PCMF2USB3S; Manufacturer: NXP; Part Type: Protection; PCB Footprint: WLCSP10
footprint WLCSP10
pins: A1 CH1_IN+ (in), A2 CH1_IN- (in), A3 CH2_IN+ (in), A4 CH2_IN- (in), B1 GND_CH1 (power), B2 GND_CH2 (power), C1 CH1_OUT+ (out), C2 CH1_OUT- (out), C3 CH2_OUT+ (out), C4 CH2_OUT- (out)
text: CMF+ESD

## PCMF3USB3S
designator U?, comment PCMF3USB3S/CZ
IC,Common-mode EMI filter for 3 channels with integrated ESD protection,SMD,WLCSP15,PF3S,NXP; Myir P/N: 20114.00010; CLASS: IC; Part Type: Protection; Manufacturer: NXP; Manufacturer P/N: PCMF3USB3S/CZ; Reserve Value: PCMF3USB3S/CZ; Datasheet: PCMFxUSB3S.pdf; PCB Footprint: WLCSP15
footprint WLCSP15
pins: A1 CH1_IN+ (in), A2 CH1_IN- (in), A3 CH2_IN+ (in), A4 CH2_IN- (in), A5 CH3_IN+ (in), A6 CH3_IN- (in), B1 GND_CH1 (power), B2 GND_CH2 (power), B3 GND_CH3 (power), C1 CH1_OUT+ (out), C2 CH1_OUT- (out), C3 CH2_OUT+ (out), C4 CH2_OUT- (out), C5 CH3_OUT+ (out), C6 CH3_OUT- (out)
text: A1,3,5; C1,3,5; A2,4,6; C2,4,6; CMF+ESD; B1,B2,B3

## PDS760-13
designator D?, comment Manufacturer Part Number: PDS760-13  (hidden comment: DIODE SCHOTTKY 60V 7A POWERDI5)
Diode 60 V 7A Surface Mount PowerDI™ 5; Order Code: Digi: PDS760DITR-ND; LCSC Manufacturer Part Number: PDS760-13; LCSC Part Number: C96113
footprint POWERDI5
pins: 1 LEFT_PIN, 2 RIGHT_PIN, 3 BOTTOMSIDE_HEAT_SINK

## PDS760-13_1
designator D?, comment Manufacturer Part Number: PDS760-13  (hidden comment: DIODE SCHOTTKY 60V 7A POWERDI5)
Diode 60 V 7A Surface Mount PowerDI™ 5; Order Code: Digi: PDS760DITR-ND; LCSC Manufacturer Part Number: PDS760-13; LCSC Part Number: C96113
footprint POWERDI5
pins: 1 LEFT_PIN, 2 RIGHT_PIN, 3 BOTTOMSIDE_HEAT_SINK

## PDS760-13_2
designator D?, comment Manufacturer Part Number: PDS760-13  (hidden comment: DIODE SCHOTTKY 60V 7A POWERDI5)
Diode 60 V 7A Surface Mount PowerDI™ 5; Order Code: Digi: PDS760DITR-ND; LCSC Manufacturer Part Number: PDS760-13; LCSC Part Number: C96113
footprint POWERDI5
pins: 1 LEFT_PIN, 2 RIGHT_PIN, 3 BOTTOMSIDE_HEAT_SINK

## PDS760-13_3
designator D?, comment Manufacturer Part Number: PDS760-13  (hidden comment: DIODE SCHOTTKY 60V 7A POWERDI5)
Diode 60 V 7A Surface Mount PowerDI™ 5; Order Code: Digi: PDS760DITR-ND; LCSC Manufacturer Part Number: PDS760-13; LCSC Part Number: C96113
footprint POWERDI5
pins: 1 LEFT_PIN, 2 RIGHT_PIN, 3 BOTTOMSIDE_HEAT_SINK

## PDS760-13_4
designator D?, comment Manufacturer Part Number: PDS760-13  (hidden comment: DIODE SCHOTTKY 60V 7A POWERDI5)
Diode 60 V 7A Surface Mount PowerDI™ 5; Order Code: Digi: PDS760DITR-ND; LCSC Manufacturer Part Number: PDS760-13; LCSC Part Number: C96113
footprint POWERDI5
pins: 1 LEFT_PIN, 2 RIGHT_PIN, 3 BOTTOMSIDE_HEAT_SINK

## PDS760-13_5
designator D?, comment Manufacturer Part Number: PDS760-13  (hidden comment: DIODE SCHOTTKY 60V 7A POWERDI5)
Diode 60 V 7A Surface Mount PowerDI™ 5; Order Code: Digi: PDS760DITR-ND; LCSC Manufacturer Part Number: PDS760-13; LCSC Part Number: C96113
footprint POWERDI5
pins: 1 LEFT_PIN, 2 RIGHT_PIN, 3 BOTTOMSIDE_HEAT_SINK

## PDS760-13_6
designator D?, comment Manufacturer Part Number: PDS760-13  (hidden comment: DIODE SCHOTTKY 60V 7A POWERDI5)
Diode 60 V 7A Surface Mount PowerDI™ 5; Order Code: Digi: PDS760DITR-ND; LCSC Manufacturer Part Number: PDS760-13; LCSC Part Number: C96113
footprint POWERDI5
pins: 1 LEFT_PIN, 2 RIGHT_PIN, 3 BOTTOMSIDE_HEAT_SINK

## PESD3V3L1BA
designator D?
TVS Diode (Bi-directional); Manufacturer_Name: Nexperia; Datasheet Link: https://datasheet.datasheetarchive.com/originals/distributors/Datasheets-26/DSA-502681.pdf; Height: 1.1mm; Manufacturer_Part_Number: PESD3V3L1BA; Mouser Part Number: N/A; Mouser Price/Stock: https://www.mouser.co.uk/ProductDetail/Nexperia/PESD3V3L1BA?qs=vHuUswq2%252BswBNSPO0jzUyg%3D%3D
footprint SOD2512X110N
pins: 1, 2

## PESD12VL2BT,215
designator D?  (value not drawn)
37V Clamp 5A (8/20µs) Ipp Tvs Diode Surface Mount TO-236AB; Manufacturer: Nexperia USA Inc.; Manufacturer Part Number: PESD12VL2BT,215; Voltage - Clamping (Max) @ Ipp: 37V; Current - Peak Pulse (10/1000µs): 5A
footprint Nexperia_SOT23_0
pins: 1 cathode 1, 2 cathode 2, 3 double cathode

## PESD0402-140
designator D?
40V Clamp - Ipp Tvs Diode Surface Mount 0402; MF: Littelfuse Inc.; SnapEDA_Link: https://www.snapeda.com/parts/PESD0402-140/Littelfuse/view-part/?ref=snap; Package: 0402 Littelfuse Inc.; Value: *; MP: PESD0402-140; Check_prices: https://www.snapeda.com/parts/PESD0402-140/Littelfuse/view-part/?ref=eda
footprint DIO_PESD0402-140
pins: 1, 2

## PESD0402-140_1
designator D?, comment PESD0402-140
40V Clamp - Ipp Tvs Diode Surface Mount 0402; MF: Littelfuse Inc.; SnapEDA_Link: https://www.snapeda.com/parts/PESD0402-140/Littelfuse/view-part/?ref=snap; Package: 0402 Littelfuse Inc.; Value: *; MP: PESD0402-140; Check_prices: https://www.snapeda.com/parts/PESD0402-140/Littelfuse/view-part/?ref=eda
footprint DIO_PESD0402-140
pins: 1, 2

## Pin Header 2x5 SMD, 1.27mm, Angled
designator P?, comment Pin Header 2x5
Pin Header 2x5, 1.27mm (50mil); Part Number: Pin Header 2x5 SMD, 1.27mm, Angled; Manufacturer: WCON; Manufacturer Part Number: 1325B-1205S0Z080CR04; Part number NEMS: 100500257; Note: (Replaced 1325B-1205S0Z080CR02); Artikkelnr Noca: N.A.; Pad Count: 10; Component Status: Active; System: Connector; LatestRevisionDate: 2024-02-02; Published: 2014-01-22; Value: Pin Header 2x5; Footprint Doc: HDR_2x5-SMD-1.27mm-ANG; Part number IPS: N.A.; ComponentLink1URL: N.A.; ComponentLink1Description: Datasheet; ComponentLink2URL: N.A.; ComponentLink2Description: Supplier link; HelpURL: \\hizz\pro\app9717\Datasheet\connectors\W-CON\1325B-12XXXXZXXXCXXX.pdf; Supplier 1: Cabcon; Supplier Part Number 1: 1325B-1205S0Z080CR04; Supplier 2: N.A.; Supplier Part Number 2: N.A.; Author: rsk; Component Class: Connectors; PartId: 100500257; Part number Norautron: N.A.
footprint HDR_2x5-SMD-1.27mm-ANG
pins: 1, 2, 3, 4, 5, 6, 7, 8, 9, 10

## Pin Header 2x5 SMD, 1.27mm, Angled_1
designator P?, comment Pin Header 2x5
Pin Header 2x5, 1.27mm (50mil); Part Number: Pin Header 2x5 SMD, 1.27mm, Angled; Manufacturer: WCON; Manufacturer Part Number: 1325B-1205S0Z080CR04; Part number NEMS: 100500257; Note: (Replaced 1325B-1205S0Z080CR02); Artikkelnr Noca: N.A.; Pad Count: 10; Component Status: Active; System: Connector; LatestRevisionDate: 2024-02-02; Published: 2014-01-22; Value: Pin Header 2x5; Footprint Doc: HDR_2x5-SMD-1.27mm-ANG; Part number IPS: N.A.; ComponentLink1URL: N.A.; ComponentLink1Description: Datasheet; ComponentLink2URL: N.A.; ComponentLink2Description: Supplier link; HelpURL: \\hizz\pro\app9717\Datasheet\connectors\W-CON\1325B-12XXXXZXXXCXXX.pdf; Supplier 1: Cabcon; Supplier Part Number 1: 1325B-1205S0Z080CR04; Supplier 2: N.A.; Supplier Part Number 2: N.A.; Author: rsk; Component Class: Connectors; PartId: 100500257; Part number Norautron: N.A.
footprint HDR_2x5-SMD-1.27mm-ANG
pins: 1, 2, 3, 4, 5, 6, 7, 8, 9, 10

## PLT10HH501100PNL
designator U?
2 Line Common Mode Choke Surface Mount 500 Ohms @ 10 MHz 10A DCR 4.1mOhm; Manufacturer Name: Murata Electronics; Voltage Rating - DC: 100V; Manufacturer Part Number: PLT10HH501100PNL; Impedance @ Frequency: 500Ohms@10MHz; Current Rating (Max): 10A
footprint Murata_PLT10HN_MFG
pins: 1, 2, 3, 4

## PMEG3050EP_115
designator D?, comment Manufacturer Part Number: PMEG3050EP,115  (hidden comment: DIODE SCHOTTKY 30V 5A SOD128)
Diode 30 V 5A Surface Mount SOD-128/CFP5; Order Code: DIGI: 1727-5317-2-ND
footprint Nexperia_SOD128_MFG
pins: 1 C, 2 A

## Power supply 230V/24V PSK-40D-24
designator U?, comment PSK-40D-24
AC-DC, 40W, 24 VDC, SINGLE OUTPU; Manufacturer: CUI Inc.; Manufacturer Part Number: PSK-40D-24; Supplier Part Number: 102-PSK-40D-24-ND; Value: PSK-40D-24
footprint PSK-40D-24
pins: 1 AC(L), 2 AC(N), 3 -Vo, 4 +Vo

## Power supply 230V/24V PSK-40D-24_1
designator U?, comment PSK-40D-24
AC-DC, 40W, 24 VDC, SINGLE OUTPU; Manufacturer: CUI Inc.; Manufacturer Part Number: PSK-40D-24; Supplier Part Number: 102-PSK-40D-24-ND; Value: PSK-40D-24
footprint PSK-40D-24
pins: 1 AC(L), 2 AC(N), 3 -Vo, 4 +Vo

## Power supply 230V/24V PSK-40D-24_2
designator U?, comment PSK-40D-24
AC-DC, 40W, 24 VDC, SINGLE OUTPU; Manufacturer: CUI Inc.; Manufacturer Part Number: PSK-40D-24; Supplier Part Number: 102-PSK-40D-24-ND; Value: PSK-40D-24
footprint PSK-40D-24
pins: 1 AC(L), 2 AC(N), 3 -Vo, 4 +Vo

## Power supply 230V/24V PSK-40D-24_3
designator U?, comment PSK-40D-24
AC-DC, 40W, 24 VDC, SINGLE OUTPU; Manufacturer: CUI Inc.; Manufacturer Part Number: PSK-40D-24; Supplier Part Number: 102-PSK-40D-24-ND; Value: PSK-40D-24
footprint PSK-40D-24
pins: 1 AC(L), 2 AC(N), 3 -Vo, 4 +Vo

## Power supply 230V/24V PSK-40D-24_4
designator U?, comment PSK-40D-24
AC-DC, 40W, 24 VDC, SINGLE OUTPU; Manufacturer: CUI Inc.; Manufacturer Part Number: PSK-40D-24; Supplier Part Number: 102-PSK-40D-24-ND; Value: PSK-40D-24
footprint PSK-40D-24
pins: 1 AC(L), 2 AC(N), 3 -Vo, 4 +Vo

## PPPC021LGBN-RC
designator J?
2 Position Header Connector 0.100" (2.54mm) Through Hole, Right Angle Gold; Manufacturer_Name: Sullins; Geometry.Height: 2.74mm; Manufacturer_Part_Number: PPPC021LGBN-RC; Mouser Part Number: *; Mouser Price/Stock: *; Arrow Part Number: *; Arrow Price/Stock: *; Datasheet Link: http://www.sullinscorp.com/drawings/78_P(N)PxCxx1LGBN-RC,_10493-G.pdf; LCSC: C5441035
footprint RHDRRA2W60P0X254_1X2_558X850X274P
pins: 1, 2

## PPTC041LFBN-RC
designator J?
4 Position Header Connector 0.100 (2.54mm) Through Hole Tin; MF: Sullins Connector; SnapEDA_Link: https://www.snapeda.com/parts/PPTC041LFBN-RC/Sullins/view-part/?ref=snap; Package: None; Value: *; MP: PPTC041LFBN-RC; Check_prices: https://www.snapeda.com/parts/PPTC041LFBN-RC/Sullins/view-part/?ref=eda
footprint SULLINS_PPTC041LFBN-RC
pins: 1, 2, 3, 4

## PRTR5V0U2F
designator D?, comment SON-6(1x1.5) ESD Protection Devices ROHS  (value not drawn)
Manufacturer Part Number: PRTR5V0U2F; Order Code: LCSC: C2937001; LCSC Manufacturer Part Number: PRTR5V0U2F; LCSC Part Number: C2937001
footprint Nexperia_SOT886_MFG
pins: 1 I/O1, 2 GND, 3 I/O2, 4 I/O2, 5 VCC (power), 6 I/O1

## PRTR5V0U2F_1
designator D?, comment SON-6(1x1.5) ESD Protection Devices ROHS  (value not drawn)
Manufacturer Part Number: PRTR5V0U2F; Order Code: LCSC: C2937001; LCSC Manufacturer Part Number: PRTR5V0U2F; LCSC Part Number: C2937001
footprint Nexperia_SOT886_MFG
pins: 1 I/O1, 2 GND (power), 3 I/O2, 4 I/O2, 5 VCC (power), 6 I/O1

## PSMN4R8-100BSEJ_NMOS_100V
designator Q?, comment 100V 120A  (value not drawn)
MOSFET N-CH 100V D2PAK; Manufacturer Part Number: PSMN4R8-100BSEJ; Order Code: DIGI : 1727-1103-1-ND; Value: 100V 120A
footprint TO263-2
pins: 1 G, 2 D, 3 S

## PTC RESETTABLE 0ZCF0075AF2C 60V 750MA 2920
designator F?  value 0.75A  (hidden comment: PTC RESETTABLE 0ZCF0075AF2C 60V 750MA 2920)
Manufacturer: FUZETEC; Manufacturer Part Name: FSMD075-60-2920-R; Package Reference: 2920; Supplier: Ozdisan; Supplier No: FSMD075-60-2920-R
footprint 0ZCF_FUSE
pins: 1, 2

## PTC_200mA 0ZCH0020FF2E
designator F?, comment PTC 14mA
PTC RESET FUSE 24V 14MA 0603; Manufacturer: Murata Electronics; Manufacturer Part Number: PRG18BB221MB1RB; Position: F?; Value: PTC 14mA; Supplier Part Number: 490-2470-1-ND
footprint 1210_F (0ZCH0020FF2E)
footprint 0603_F
pins: 1, 2

## PTC_200mA 0ZCH0020FF2E_1
designator F?, comment value PTC 14mA  (hidden comment: PTC 750mA)
PTC RESET FUSE 24V 14MA 0603; Manufacturer: Murata Electronics; Manufacturer Part Number: PRG18BB221MB1RB; Position: F?; Supplier Part Number: 490-2470-1-ND
footprint 1210_F (0ZCH0020FF2E)
footprint 0603_F
pins: 1, 2

## PTN5150AHXMP
designator U?
IC,CC logic for USB Type-C applications,SMD,XFQFN12,50,NXP; Myir P/N: 20105.00024; PCB Footprint: x2qfn12; CLASS: IC; Datasheet: PTN5150.pdf; Reserve Value: PTN5150AHXMP; Manufacturer P/N: PTN5150AHXMP; Manufacturer: NXP; Part Type: Logic
footprint x2qfn12
pins: 1 CC1, 2 CC2, 3 PORT, 4 VBUS_DET, 5 ADR/CON_DET, 6 INTB/OUT3, 7 SDA/OUT1, 8 SCL/OUT2, 9 ID, 10 GND, 11 EXT_SEL, 12 VDD

## PTS636_SM50J_SMTR_LFS
designator S?
Switch; Manufacturer_Name: C & K COMPONENTS; Manufacturer_Part_Number: PTS636 SM50J SMTR LFS; Datasheet Link: https://www.ckswitches.com/media/2779/pts636.pdf; Height: 5mm; Mouser Part Number: 611-PTS636SM50JSMTRL; Mouser Price/Stock: https://www.mouser.co.uk/ProductDetail/CK/PTS636-SM50J-SMTR-LFS?qs=vLWxofP3U2yjyUEoo0QLqQ%3D%3D; Arrow Part Number: PTS636 SM50J SMTR LFS; Arrow Price/Stock: https://www.arrow.com/en/products/pts636-sm50j-smtr-lfs/ck?region=nac
footprint PTS636SM50JSMTRLFS
pins: 1 COM, 2 NO

## PTS645SK43SMTR92LFS
designator SW?
Switch;Tactile;SPST-NO;OFF-MOM;Top Actuator;260 Grams;4.3mm;.05A;12VDC;Gull Wing | C&K PTS645SK43SMTR92 LFS; SnapEDA_Link: https://www.snapeda.com/parts/PTS645SK43SMTR92%20LFS/C%2526K/view-part/?ref=snap; Package: NON-STANDARD-4 C&amp;K; Value: *; MF: C&K; MP: PTS645SK43SMTR92 LFS; Check_prices: https://www.snapeda.com/parts/PTS645SK43SMTR92%20LFS/C%2526K/view-part/?ref=eda; LCSC: C221871
footprint SW_PTS645SK43SMTR92LFS
pins: 1, 2, 3, 4

## Q13FC1350000400
designator Y?, comment value 32.768kHz  (hidden comment: SEIKO 3215 32.768kHz CRSYTAL)
32.768kHz 12.5pF ±20ppm SMD3215-2P Crystals ROHS; Manufacturer Part Number: Q13FC1350000400; Order Code: LCSC: C32346; LCSC Manufacturer Part Number: Q13FC1350000400; LCSC Part Number: C32346
footprint XTAL_ABS07-32.768KHZ-T
pins: 1, 2

## Q13FC1350000400_1
designator Y?, comment value 32.768kHz  (hidden comment: SEIKO 3215 32.768kHz CRSYTAL)
32.768kHz 12.5pF ±20ppm SMD3215-2P Crystals ROHS; Manufacturer Part Number: Q13FC1350000400; Order Code: LCSC: C32346; LCSC Manufacturer Part Number: Q13FC1350000400; LCSC Part Number: C32346
footprint XTAL_ABS07-32.768KHZ-T
pins: 1, 2

## QM13345
designator U?
SP4T RF Switch with RFFE Interface; Manufacturer: Qorvo; Part number NEMS: 101900679; Pad Count: 10; Note: N.A.; Component Status: Active; Part Number: QM13345; Component Class: Misc_ICs; Author: rubr; Manufacturer Part Number: QM13345; ComponentLink1URL: \\hizz\pro\app9717\Datasheet\integated circuits\qorvo\QM13345 Datasheet.pdf; ComponentLink1Description: Datasheet; ComponentLink2URL: N.A.; ComponentLink2Description: Supplier link; HelpURL: N.A.; Footprint Doc: UFQFN-10; LatestRevisionDate: 2021-12-10; Published: 2021-12-10; Value: QM13345; Supplier 1: N.A.; Supplier Part Number 1: N.A.; Supplier 2: N.A.; Supplier Part Number 2: N.A.; Artikkelnr Noca: N.A.; Part number IPS: N.A.; Part number Norautron: N.A.; PartId: 101900679
footprint PQFN40P110X150X50-10N
pins: 1 RF4 (io), 2 RF1 (io), 3 ID (in), 4 VIO (power), 5 SDATA (in), 6 SCLK (in), 7 GND (power), 8 RF2 (io), 9 RF3 (io), 10 RFC (io)

## QM13345_1
designator U?, comment QM13345
SP4T RF Switch with RFFE Interface; Manufacturer: Qorvo; Part number NEMS: 101900679; Pad Count: 10; Note: N.A.; Component Status: Active; Part Number: QM13345; Component Class: Misc_ICs; Author: rubr; Manufacturer Part Number: QM13345; ComponentLink1URL: \\hizz\pro\app9717\Datasheet\integated circuits\qorvo\QM13345 Datasheet.pdf; ComponentLink1Description: Datasheet; ComponentLink2URL: N.A.; ComponentLink2Description: Supplier link; HelpURL: N.A.; Footprint Doc: UFQFN-10; LatestRevisionDate: 2021-12-10; Published: 2021-12-10; Value: QM13345; Supplier 1: N.A.; Supplier Part Number 1: N.A.; Supplier 2: N.A.; Supplier Part Number 2: N.A.; Artikkelnr Noca: N.A.; Part number IPS: N.A.; Part number Norautron: N.A.; PartId: 101900679
footprint PQFN40P110X150X50-10N
pins: 1 RF4 (io), 2 RF1 (io), 3 ID (in), 4 VIO (power), 5 SDATA (in), 6 SCLK (in), 7 GND (power), 8 RF2 (io), 9 RF3 (io), 10 RFC (io)

## QMB-09B-03
designator LS?
BUZZER MAGNETIC 2V~5V 9mm TH; MP: QMB-09B-03; Availability: In Stock
footprint CUI_CMI-1295-0585T
pins: N, P

## R
designator R?, comment 1K
RES 1K OHM 1% 1/16W 0402; Manufacturer: Yageo; Manufacturer Part Number: RC0402FR-071KL; Value: 1K; Footprint: Resistor_SMD:R_0402_1005Metric; Supplier Part Number: 311-1.00KLRCT-ND
footprint 0402_R (MODIFIED BY DN_MH - 16JAN17;CHECKED BY DN_TN - 18JAN17;CHECKED BY DN_QN - 20FEB19)
pins: 1, 2

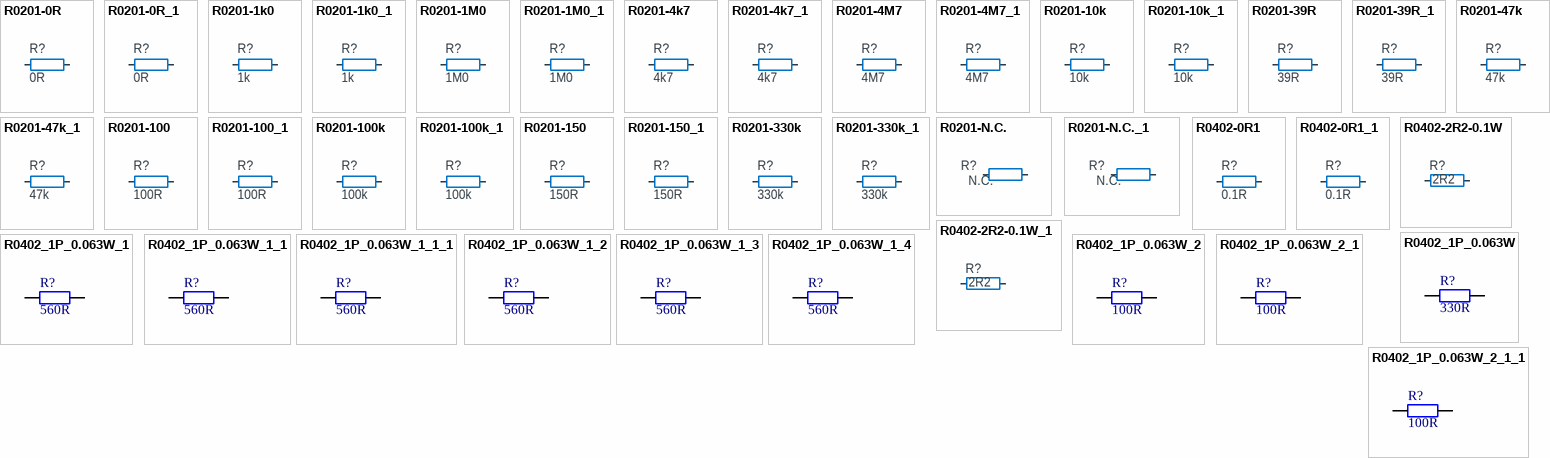
[diagram p41: symbols R0201-0R to R0402_1P_0.063W_2_1_1]

## R0201-0R
designator R?, comment 0R
Resistor, ±5%, 0.05W; Part Number: R0201-0R; Manufacturer: N.A.; Part number IPS: 00000003245; Part number NEMS: 100100001; Pad Count: 2; Note: Chip Res 5%; Component Status: Active; Footprint Doc: 0201; Value: 0R; Component Class: Resistors; Author: rsk; PartId: 100100001; Manufacturer Part Number: N.A.; ComponentLink1URL: N.A.; ComponentLink1Description: Datasheet; ComponentLink2URL: N.A.; ComponentLink2Description: Supplier link; HelpURL: N.A.; LatestRevisionDate: 2017-11-09; Published: 2014-11-13; Supplier 1: N.A.; Supplier Part Number 1: N.A.; Supplier 2: N.A.; Supplier Part Number 2: N.A.; Artikkelnr Noca: N.A.; Part number Norautron: N.A.
footprint RESC0603X03L_C
pins: 1, 2

## R0201-0R_1
designator R?, comment 0R
Resistor, ±5%, 0.05W; Part Number: R0201-0R; Manufacturer: N.A.; Part number IPS: 00000003245; Part number NEMS: 100100001; Pad Count: 2; Note: Chip Res 5%; Component Status: Active; Footprint Doc: 0201; Value: 0R; Component Class: Resistors; Author: rsk; PartId: 100100001; Manufacturer Part Number: N.A.; ComponentLink1URL: N.A.; ComponentLink1Description: Datasheet; ComponentLink2URL: N.A.; ComponentLink2Description: Supplier link; HelpURL: N.A.; LatestRevisionDate: 2017-11-09; Published: 2014-11-13; Supplier 1: N.A.; Supplier Part Number 1: N.A.; Supplier 2: N.A.; Supplier Part Number 2: N.A.; Artikkelnr Noca: N.A.; Part number Norautron: N.A.
footprint RESC0603X03L_C
pins: 1, 2

## R0201-1k0
designator R?, comment 1k
Resistor, ±1%, 0.05W; Part Number: R0201-1k0; Manufacturer: N.A.; Part number IPS: 00000005786; Part number NEMS: 100100043; Note: Chip Res 1%; Pad Count: 2; Component Status: Active; Manufacturer Part Number: N.A.; ComponentLink1URL: N.A.; ComponentLink1Description: Datasheet; ComponentLink2URL: N.A.; ComponentLink2Description: Supplier link; HelpURL: N.A.; Footprint Doc: 0201; LatestRevisionDate: 2014-11-13; Published: 2014-11-13; Value: 1k; Artikkelnr Noca: N.A.; Supplier 1: N.A.; Supplier Part Number 1: N.A.; Supplier 2: N.A.; Supplier Part Number 2: N.A.; Component Class: Resistors; PartId: 100100043; Author: rsk; Part number Norautron: N.A.
footprint RESC0603X03L_C
pins: 1, 2

## R0201-1k0_1
designator R?, comment 1k
Resistor, ±1%, 0.05W; Part Number: R0201-1k0; Manufacturer: N.A.; Part number IPS: 00000005786; Part number NEMS: 100100043; Note: Chip Res 1%; Pad Count: 2; Component Status: Active; Manufacturer Part Number: N.A.; ComponentLink1URL: N.A.; ComponentLink1Description: Datasheet; ComponentLink2URL: N.A.; ComponentLink2Description: Supplier link; HelpURL: N.A.; Footprint Doc: 0201; LatestRevisionDate: 2014-11-13; Published: 2014-11-13; Value: 1k; Artikkelnr Noca: N.A.; Supplier 1: N.A.; Supplier Part Number 1: N.A.; Supplier 2: N.A.; Supplier Part Number 2: N.A.; Component Class: Resistors; PartId: 100100043; Author: rsk; Part number Norautron: N.A.
footprint RESC0603X03L_C
pins: 1, 2

## R0201-1M0
designator R?, comment 1M0
Resistor, ±1%, 0.05W; Part Number: R0201-1M0; Manufacturer: N.A.; Part number IPS: 00000001418; Part number Norautron: 26107108; Part number NEMS: 100100093; Note: Chip Res 1%; Pad Count: 2; Component Status: Active; Manufacturer Part Number: N.A.; ComponentLink1URL: N.A.; ComponentLink1Description: Datasheet; ComponentLink2URL: N.A.; ComponentLink2Description: Supplier link; HelpURL: N.A.; Footprint Doc: 0201; LatestRevisionDate: 2014-11-13; Published: 2014-11-13; Value: 1M0; Supplier 1: N.A.; Supplier Part Number 1: N.A.; Supplier 2: N.A.; Supplier Part Number 2: N.A.; Artikkelnr Noca: N.A.; PartId: 100100093; Component Class: Resistors; Author: rsk
footprint RESC0603X03L_C
pins: 1, 2

## R0201-1M0_1
designator R?, comment 1M0
Resistor, ±1%, 0.05W; Part Number: R0201-1M0; Manufacturer: N.A.; Part number IPS: 00000001418; Part number Norautron: 26107108; Part number NEMS: 100100093; Note: Chip Res 1%; Pad Count: 2; Component Status: Active; Manufacturer Part Number: N.A.; ComponentLink1URL: N.A.; ComponentLink1Description: Datasheet; ComponentLink2URL: N.A.; ComponentLink2Description: Supplier link; HelpURL: N.A.; Footprint Doc: 0201; LatestRevisionDate: 2014-11-13; Published: 2014-11-13; Value: 1M0; Supplier 1: N.A.; Supplier Part Number 1: N.A.; Supplier 2: N.A.; Supplier Part Number 2: N.A.; Artikkelnr Noca: N.A.; PartId: 100100093; Component Class: Resistors; Author: rsk
footprint RESC0603X03L_C
pins: 1, 2

## R0201-4k7
designator R?, comment 4k7
Resistor, ±1%, 0.05W; Part Number: R0201-4k7; Manufacturer: N.A.; Part number IPS: 00000001706; Part number NEMS: 100100061; Note: Chip Res 1%; Pad Count: 2; Component Status: Active; Manufacturer Part Number: N.A.; Footprint Doc: 0201; LatestRevisionDate: 2014-11-13; Published: 2014-11-13; Value: 4k7; Artikkelnr Noca: N.A.; ComponentLink1URL: N.A.; ComponentLink1Description: Datasheet; ComponentLink2URL: N.A.; ComponentLink2Description: Supplier link; HelpURL: N.A.; Supplier 1: N.A.; Supplier Part Number 1: N.A.; Supplier 2: N.A.; Supplier Part Number 2: N.A.; Author: rsk; Component Class: Resistors; PartId: 100100061; Part number Norautron: N.A.
footprint RESC0603X03L_C
pins: 1, 2

## R0201-4k7_1
designator R?, comment 4k7
Resistor, ±1%, 0.05W; Part Number: R0201-4k7; Manufacturer: N.A.; Part number IPS: 00000001706; Part number NEMS: 100100061; Note: Chip Res 1%; Pad Count: 2; Component Status: Active; Manufacturer Part Number: N.A.; Footprint Doc: 0201; LatestRevisionDate: 2014-11-13; Published: 2014-11-13; Value: 4k7; Artikkelnr Noca: N.A.; ComponentLink1URL: N.A.; ComponentLink1Description: Datasheet; ComponentLink2URL: N.A.; ComponentLink2Description: Supplier link; HelpURL: N.A.; Supplier 1: N.A.; Supplier Part Number 1: N.A.; Supplier 2: N.A.; Supplier Part Number 2: N.A.; Author: rsk; Component Class: Resistors; PartId: 100100061; Part number Norautron: N.A.
footprint RESC0603X03L_C
pins: 1, 2

## R0201-4M7
designator R?, comment 4M7
Resistor, ±1%, 0.05W; Part Number: R0201-4M7; Manufacturer: N.A.; Part number NEMS: 100100101; Note: Chip Res 1%; Pad Count: 2; Component Status: Active; Manufacturer Part Number: N.A.; ComponentLink1URL: N.A.; ComponentLink1Description: Datasheet; ComponentLink2URL: N.A.; ComponentLink2Description: Supplier link; HelpURL: N.A.; Footprint Doc: 0201; LatestRevisionDate: 2014-11-13; Published: 2014-11-13; Value: 4M7; Artikkelnr Noca: N.A.; Part number IPS: N.A.; Supplier 1: N.A.; Supplier Part Number 1: N.A.; Supplier 2: N.A.; Supplier Part Number 2: N.A.; Component Class: Resistors; PartId: 100100101; Author: rsk; Part number Norautron: N.A.
footprint RESC0603X03L_C
pins: 1, 2

## R0201-4M7_1
designator R?, comment 4M7
Resistor, ±1%, 0.05W; Part Number: R0201-4M7; Manufacturer: N.A.; Part number NEMS: 100100101; Note: Chip Res 1%; Pad Count: 2; Component Status: Active; Manufacturer Part Number: N.A.; ComponentLink1URL: N.A.; ComponentLink1Description: Datasheet; ComponentLink2URL: N.A.; ComponentLink2Description: Supplier link; HelpURL: N.A.; Footprint Doc: 0201; LatestRevisionDate: 2014-11-13; Published: 2014-11-13; Value: 4M7; Artikkelnr Noca: N.A.; Part number IPS: N.A.; Supplier 1: N.A.; Supplier Part Number 1: N.A.; Supplier 2: N.A.; Supplier Part Number 2: N.A.; Component Class: Resistors; PartId: 100100101; Author: rsk; Part number Norautron: N.A.
footprint RESC0603X03L_C
pins: 1, 2

## R0201-10k
designator R?, comment 10k
Resistor, ±1%, 0.05W; Part Number: R0201-10k; Manufacturer: N.A.; Part number IPS: 00000001255; Part number Norautron: 26107101; Part number NEMS: 100100065; Note: Chip Res 1%; Pad Count: 2; Component Status: Active; Manufacturer Part Number: N.A.; ComponentLink1URL: N.A.; ComponentLink1Description: Datasheet; ComponentLink2URL: N.A.; ComponentLink2Description: Supplier link; HelpURL: N.A.; Footprint Doc: 0201; LatestRevisionDate: 2014-11-13; Published: 2014-11-13; Value: 10k; Artikkelnr Noca: N.A.; Supplier 1: N.A.; Supplier Part Number 1: N.A.; Supplier 2: N.A.; Supplier Part Number 2: N.A.; PartId: 100100065; Component Class: Resistors; Author: rsk
footprint RESC0603X03L_C
pins: 1, 2

## R0201-10k_1
designator R?, comment 10k
Resistor, ±1%, 0.05W; Part Number: R0201-10k; Manufacturer: N.A.; Part number IPS: 00000001255; Part number Norautron: 26107101; Part number NEMS: 100100065; Note: Chip Res 1%; Pad Count: 2; Component Status: Active; Manufacturer Part Number: N.A.; ComponentLink1URL: N.A.; ComponentLink1Description: Datasheet; ComponentLink2URL: N.A.; ComponentLink2Description: Supplier link; HelpURL: N.A.; Footprint Doc: 0201; LatestRevisionDate: 2014-11-13; Published: 2014-11-13; Value: 10k; Artikkelnr Noca: N.A.; Supplier 1: N.A.; Supplier Part Number 1: N.A.; Supplier 2: N.A.; Supplier Part Number 2: N.A.; PartId: 100100065; Component Class: Resistors; Author: rsk
footprint RESC0603X03L_C
pins: 1, 2

## R0201-39R
designator R?, comment 39R
Resistor, ±1%, 0.05W; Part Number: R0201-39R; Manufacturer: N.A.; Part number IPS: 00000001704; Part number NEMS: 100100021; Note: Chip Res 1%; Pad Count: 2; Component Status: Active; Manufacturer Part Number: N.A.; LatestRevisionDate: 2014-11-13; Published: 2014-11-13; Value: 39R; Artikkelnr Noca: N.A.; Footprint Doc: 0201; ComponentLink1URL: N.A.; ComponentLink1Description: Datasheet; ComponentLink2URL: N.A.; ComponentLink2Description: Supplier link; HelpURL: N.A.; Supplier 1: N.A.; Supplier Part Number 1: N.A.; Supplier 2: N.A.; Supplier Part Number 2: N.A.; Author: rsk; Component Class: Resistors; PartId: 100100021; Part number Norautron: N.A.
footprint RESC0603X03L_C
pins: 1, 2

## R0201-39R_1
designator R?, comment 39R
Resistor, ±1%, 0.05W; Part Number: R0201-39R; Manufacturer: N.A.; Part number IPS: 00000001704; Part number NEMS: 100100021; Note: Chip Res 1%; Pad Count: 2; Component Status: Active; Manufacturer Part Number: N.A.; LatestRevisionDate: 2014-11-13; Published: 2014-11-13; Value: 39R; Artikkelnr Noca: N.A.; Footprint Doc: 0201; ComponentLink1URL: N.A.; ComponentLink1Description: Datasheet; ComponentLink2URL: N.A.; ComponentLink2Description: Supplier link; HelpURL: N.A.; Supplier 1: N.A.; Supplier Part Number 1: N.A.; Supplier 2: N.A.; Supplier Part Number 2: N.A.; Author: rsk; Component Class: Resistors; PartId: 100100021; Part number Norautron: N.A.
footprint RESC0603X03L_C
pins: 1, 2